# Altium footprint library Mirror_Footprints.PcbLib: 29 footprints (part 2 of 3)
Each footprint in its own frame and in the unit in brackets; x right, y up, seen from the top. Pads: shape width x height; smd on the part's side, far side on the other; paste and mask are expansions set on the pad; w line width, h text height; cw(c..) or ccw(c..) is an arc to the next point about the centre after c.
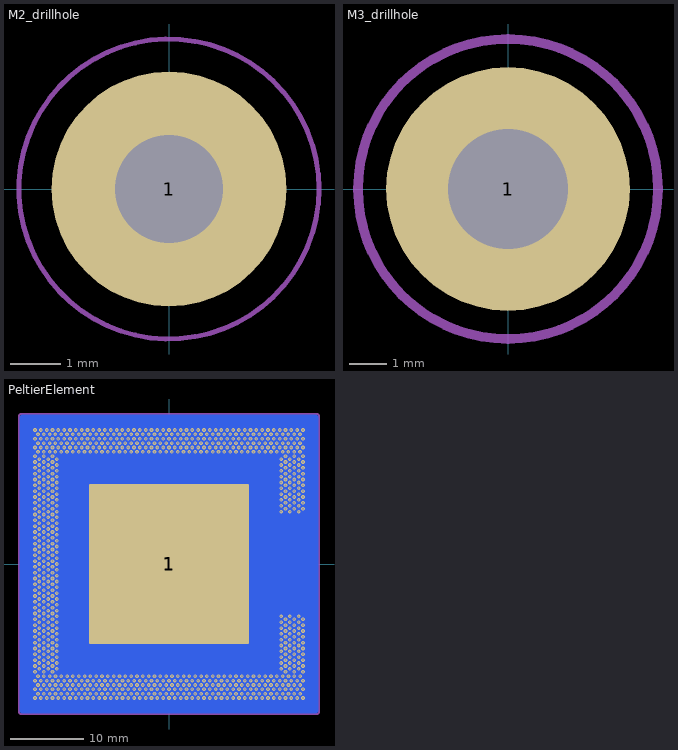
[diagram p1: the footprints below, top view; thin cyan lines are the x and y axes]

## M2_drillhole [mm]
pads (1):
  round 4.7 hole 2.15: 1(0,0)
Top Courtyard:
  circle w0.1: c0,0 r3
Bottom Courtyard:
  circle w0.1: c0,0 r3

## M3_drillhole [mm]
pads (1):
  round 6.5 hole 3.2: 1(0,0)
Top Courtyard:
  circle w0.254: c0,0 r4.001
Bottom Courtyard:
  circle w0.254: c0,0 r4.001

## PeltierElement [mm]
pads (2):
  rrect2% 22x22 smd paste-2539.97: 1(0,0)
  rrect2% 41x41 smd far side paste-2539.97: 1(0,0)
via -18.4,18.4 diameter 0.5 hole 0.3
via -17.6,18.4 diameter 0.5 hole 0.3
via -18,17.8 diameter 0.5 hole 0.3
via -16.8,18.4 diameter 0.5 hole 0.3
via -17.2,17.8 diameter 0.5 hole 0.3
via -16.4,17.8 diameter 0.5 hole 0.3
via -16,18.4 diameter 0.5 hole 0.3
via -15.2,18.4 diameter 0.5 hole 0.3
via -15.6,17.8 diameter 0.5 hole 0.3
via -14.4,18.4 diameter 0.5 hole 0.3
via -14.8,17.8 diameter 0.5 hole 0.3
via -14,17.8 diameter 0.5 hole 0.3
via -13.6,18.4 diameter 0.5 hole 0.3
via -12.8,18.4 diameter 0.5 hole 0.3
via -13.2,17.8 diameter 0.5 hole 0.3
via -12,18.4 diameter 0.5 hole 0.3
via -12.4,17.8 diameter 0.5 hole 0.3
via -11.6,17.8 diameter 0.5 hole 0.3
via -11.2,18.4 diameter 0.5 hole 0.3
via -10.4,18.4 diameter 0.5 hole 0.3
via -10.8,17.8 diameter 0.5 hole 0.3
via -9.6,18.4 diameter 0.5 hole 0.3
via -10,17.8 diameter 0.5 hole 0.3
via -9.2,17.8 diameter 0.5 hole 0.3
via -8.8,18.4 diameter 0.5 hole 0.3
via -8,18.4 diameter 0.5 hole 0.3
via -8.4,17.8 diameter 0.5 hole 0.3
via -7.2,18.4 diameter 0.5 hole 0.3
via -7.6,17.8 diameter 0.5 hole 0.3
via -6.8,17.8 diameter 0.5 hole 0.3
via -6.4,18.4 diameter 0.5 hole 0.3
via -5.6,18.4 diameter 0.5 hole 0.3
via -6,17.8 diameter 0.5 hole 0.3
via -4.8,18.4 diameter 0.5 hole 0.3
via -5.2,17.8 diameter 0.5 hole 0.3
via -4.4,17.8 diameter 0.5 hole 0.3
via -4,18.4 diameter 0.5 hole 0.3
via -3.2,18.4 diameter 0.5 hole 0.3
via -3.6,17.8 diameter 0.5 hole 0.3
via -2.4,18.4 diameter 0.5 hole 0.3
via -2.8,17.8 diameter 0.5 hole 0.3
via -2,17.8 diameter 0.5 hole 0.3
via -1.6,18.4 diameter 0.5 hole 0.3
via -0.8,18.4 diameter 0.5 hole 0.3
via -1.2,17.8 diameter 0.5 hole 0.3
via 0,18.4 diameter 0.5 hole 0.3
via -0.4,17.8 diameter 0.5 hole 0.3
via 0.4,17.8 diameter 0.5 hole 0.3
via 0.8,18.4 diameter 0.5 hole 0.3
via 1.6,18.4 diameter 0.5 hole 0.3
via 1.2,17.8 diameter 0.5 hole 0.3
via 2.4,18.4 diameter 0.5 hole 0.3
via 2,17.8 diameter 0.5 hole 0.3
via 2.8,17.8 diameter 0.5 hole 0.3
via 3.2,18.4 diameter 0.5 hole 0.3
via 4,18.4 diameter 0.5 hole 0.3
via 3.6,17.8 diameter 0.5 hole 0.3
via 4.8,18.4 diameter 0.5 hole 0.3
via 4.4,17.8 diameter 0.5 hole 0.3
via 5.2,17.8 diameter 0.5 hole 0.3
via 5.6,18.4 diameter 0.5 hole 0.3
via 6.4,18.4 diameter 0.5 hole 0.3
via 6,17.8 diameter 0.5 hole 0.3
via 7.2,18.4 diameter 0.5 hole 0.3
via 6.8,17.8 diameter 0.5 hole 0.3
via 7.6,17.8 diameter 0.5 hole 0.3
via 8,18.4 diameter 0.5 hole 0.3
via 8.8,18.4 diameter 0.5 hole 0.3
via 8.4,17.8 diameter 0.5 hole 0.3
via 9.6,18.4 diameter 0.5 hole 0.3
via 9.2,17.8 diameter 0.5 hole 0.3
via 10,17.8 diameter 0.5 hole 0.3
via 10.4,18.4 diameter 0.5 hole 0.3
via 11.2,18.4 diameter 0.5 hole 0.3
via 10.8,17.8 diameter 0.5 hole 0.3
via 12,18.4 diameter 0.5 hole 0.3
via 11.6,17.8 diameter 0.5 hole 0.3
via 12.4,17.8 diameter 0.5 hole 0.3
via 12.8,18.4 diameter 0.5 hole 0.3
via 13.6,18.4 diameter 0.5 hole 0.3
via 13.2,17.8 diameter 0.5 hole 0.3
via 14.4,18.4 diameter 0.5 hole 0.3
via 14,17.8 diameter 0.5 hole 0.3
via 14.8,17.8 diameter 0.5 hole 0.3
via 15.2,18.4 diameter 0.5 hole 0.3
via 16,18.4 diameter 0.5 hole 0.3
via 15.6,17.8 diameter 0.5 hole 0.3
via 16.8,18.4 diameter 0.5 hole 0.3
via 16.4,17.8 diameter 0.5 hole 0.3
via 17.2,17.8 diameter 0.5 hole 0.3
via 17.6,18.4 diameter 0.5 hole 0.3
via 18.4,18.4 diameter 0.5 hole 0.3
via 18,17.8 diameter 0.5 hole 0.3
via -18.4,17.2 diameter 0.5 hole 0.3
via -17.6,17.2 diameter 0.5 hole 0.3
via -18,16.6 diameter 0.5 hole 0.3
via -16.8,17.2 diameter 0.5 hole 0.3
via -17.2,16.6 diameter 0.5 hole 0.3
via -16.4,16.6 diameter 0.5 hole 0.3
via -16,17.2 diameter 0.5 hole 0.3
via -15.2,17.2 diameter 0.5 hole 0.3
via -15.6,16.6 diameter 0.5 hole 0.3
via -14.4,17.2 diameter 0.5 hole 0.3
via -14.8,16.6 diameter 0.5 hole 0.3
via -14,16.6 diameter 0.5 hole 0.3
via -13.6,17.2 diameter 0.5 hole 0.3
via -12.8,17.2 diameter 0.5 hole 0.3
via -13.2,16.6 diameter 0.5 hole 0.3
via -12,17.2 diameter 0.5 hole 0.3
via -12.4,16.6 diameter 0.5 hole 0.3
via -11.6,16.6 diameter 0.5 hole 0.3
via -11.2,17.2 diameter 0.5 hole 0.3
via -10.4,17.2 diameter 0.5 hole 0.3
via -10.8,16.6 diameter 0.5 hole 0.3
via -9.6,17.2 diameter 0.5 hole 0.3
via -10,16.6 diameter 0.5 hole 0.3
via -9.2,16.6 diameter 0.5 hole 0.3
via -8.8,17.2 diameter 0.5 hole 0.3
via -8,17.2 diameter 0.5 hole 0.3
via -8.4,16.6 diameter 0.5 hole 0.3
via -7.2,17.2 diameter 0.5 hole 0.3
via -7.6,16.6 diameter 0.5 hole 0.3
via -6.8,16.6 diameter 0.5 hole 0.3
via -6.4,17.2 diameter 0.5 hole 0.3
via -5.6,17.2 diameter 0.5 hole 0.3
via -6,16.6 diameter 0.5 hole 0.3
via -4.8,17.2 diameter 0.5 hole 0.3
via -5.2,16.6 diameter 0.5 hole 0.3
via -4.4,16.6 diameter 0.5 hole 0.3
via -4,17.2 diameter 0.5 hole 0.3
via -3.2,17.2 diameter 0.5 hole 0.3
via -3.6,16.6 diameter 0.5 hole 0.3
via -2.4,17.2 diameter 0.5 hole 0.3
via -2.8,16.6 diameter 0.5 hole 0.3
via -2,16.6 diameter 0.5 hole 0.3
via -1.6,17.2 diameter 0.5 hole 0.3
via -0.8,17.2 diameter 0.5 hole 0.3
via -1.2,16.6 diameter 0.5 hole 0.3
via 0,17.2 diameter 0.5 hole 0.3
via -0.4,16.6 diameter 0.5 hole 0.3
via 0.4,16.6 diameter 0.5 hole 0.3
via 0.8,17.2 diameter 0.5 hole 0.3
via 1.6,17.2 diameter 0.5 hole 0.3
via 1.2,16.6 diameter 0.5 hole 0.3
via 2.4,17.2 diameter 0.5 hole 0.3
via 2,16.6 diameter 0.5 hole 0.3
via 2.8,16.6 diameter 0.5 hole 0.3
via 3.2,17.2 diameter 0.5 hole 0.3
via 4,17.2 diameter 0.5 hole 0.3
via 3.6,16.6 diameter 0.5 hole 0.3
via 4.8,17.2 diameter 0.5 hole 0.3
via 4.4,16.6 diameter 0.5 hole 0.3
via 5.2,16.6 diameter 0.5 hole 0.3
via 5.6,17.2 diameter 0.5 hole 0.3
via 6.4,17.2 diameter 0.5 hole 0.3
via 6,16.6 diameter 0.5 hole 0.3
via 7.2,17.2 diameter 0.5 hole 0.3
via 6.8,16.6 diameter 0.5 hole 0.3
via 7.6,16.6 diameter 0.5 hole 0.3
via 8,17.2 diameter 0.5 hole 0.3
via 8.8,17.2 diameter 0.5 hole 0.3
via 8.4,16.6 diameter 0.5 hole 0.3
via 9.6,17.2 diameter 0.5 hole 0.3
via 9.2,16.6 diameter 0.5 hole 0.3
via 10,16.6 diameter 0.5 hole 0.3
via 10.4,17.2 diameter 0.5 hole 0.3
via 11.2,17.2 diameter 0.5 hole 0.3
via 10.8,16.6 diameter 0.5 hole 0.3
via 12,17.2 diameter 0.5 hole 0.3
via 11.6,16.6 diameter 0.5 hole 0.3
via 12.4,16.6 diameter 0.5 hole 0.3
via 12.8,17.2 diameter 0.5 hole 0.3
via 13.6,17.2 diameter 0.5 hole 0.3
via 13.2,16.6 diameter 0.5 hole 0.3
via 14.4,17.2 diameter 0.5 hole 0.3
via 14,16.6 diameter 0.5 hole 0.3
via 14.8,16.6 diameter 0.5 hole 0.3
via 15.2,17.2 diameter 0.5 hole 0.3
via 16,17.2 diameter 0.5 hole 0.3
via 15.6,16.6 diameter 0.5 hole 0.3
via 16.8,17.2 diameter 0.5 hole 0.3
via 16.4,16.6 diameter 0.5 hole 0.3
via 17.2,16.6 diameter 0.5 hole 0.3
via 17.6,17.2 diameter 0.5 hole 0.3
via 18.4,17.2 diameter 0.5 hole 0.3
via 18,16.6 diameter 0.5 hole 0.3
via -18.4,16 diameter 0.5 hole 0.3
via -17.6,16 diameter 0.5 hole 0.3
via -18,15.4 diameter 0.5 hole 0.3
via -16.8,16 diameter 0.5 hole 0.3
via -17.2,15.4 diameter 0.5 hole 0.3
via -16.4,15.4 diameter 0.5 hole 0.3
via -16,16 diameter 0.5 hole 0.3
via -15.2,16 diameter 0.5 hole 0.3
via -15.6,15.4 diameter 0.5 hole 0.3
via -14.4,16 diameter 0.5 hole 0.3
via -14.8,15.4 diameter 0.5 hole 0.3
via -14,15.4 diameter 0.5 hole 0.3
via -13.6,16 diameter 0.5 hole 0.3
via -12.8,16 diameter 0.5 hole 0.3
via -13.2,15.4 diameter 0.5 hole 0.3
via -12,16 diameter 0.5 hole 0.3
via -12.4,15.4 diameter 0.5 hole 0.3
via -11.6,15.4 diameter 0.5 hole 0.3
via -11.2,16 diameter 0.5 hole 0.3
via -10.4,16 diameter 0.5 hole 0.3
via -10.8,15.4 diameter 0.5 hole 0.3
via -9.6,16 diameter 0.5 hole 0.3
via -10,15.4 diameter 0.5 hole 0.3
via -9.2,15.4 diameter 0.5 hole 0.3
via -8.8,16 diameter 0.5 hole 0.3
via -8,16 diameter 0.5 hole 0.3
via -8.4,15.4 diameter 0.5 hole 0.3
via -7.2,16 diameter 0.5 hole 0.3
via -7.6,15.4 diameter 0.5 hole 0.3
via -6.8,15.4 diameter 0.5 hole 0.3
via -6.4,16 diameter 0.5 hole 0.3
via -5.6,16 diameter 0.5 hole 0.3
via -6,15.4 diameter 0.5 hole 0.3
via -4.8,16 diameter 0.5 hole 0.3
via -5.2,15.4 diameter 0.5 hole 0.3
via -4.4,15.4 diameter 0.5 hole 0.3
via -4,16 diameter 0.5 hole 0.3
via -3.2,16 diameter 0.5 hole 0.3
via -3.6,15.4 diameter 0.5 hole 0.3
via -2.4,16 diameter 0.5 hole 0.3
via -2.8,15.4 diameter 0.5 hole 0.3
via -2,15.4 diameter 0.5 hole 0.3
via -1.6,16 diameter 0.5 hole 0.3
via -0.8,16 diameter 0.5 hole 0.3
via -1.2,15.4 diameter 0.5 hole 0.3
via 0,16 diameter 0.5 hole 0.3
via -0.4,15.4 diameter 0.5 hole 0.3
via 0.4,15.4 diameter 0.5 hole 0.3
via 0.8,16 diameter 0.5 hole 0.3
via 1.6,16 diameter 0.5 hole 0.3
via 1.2,15.4 diameter 0.5 hole 0.3
via 2.4,16 diameter 0.5 hole 0.3
via 2,15.4 diameter 0.5 hole 0.3
via 2.8,15.4 diameter 0.5 hole 0.3
via 3.2,16 diameter 0.5 hole 0.3
via 4,16 diameter 0.5 hole 0.3
via 3.6,15.4 diameter 0.5 hole 0.3
via 4.8,16 diameter 0.5 hole 0.3
via 4.4,15.4 diameter 0.5 hole 0.3
via 5.2,15.4 diameter 0.5 hole 0.3
via 5.6,16 diameter 0.5 hole 0.3
via 6.4,16 diameter 0.5 hole 0.3
via 6,15.4 diameter 0.5 hole 0.3
via 7.2,16 diameter 0.5 hole 0.3
via 6.8,15.4 diameter 0.5 hole 0.3
via 7.6,15.4 diameter 0.5 hole 0.3
via 8,16 diameter 0.5 hole 0.3
via 8.8,16 diameter 0.5 hole 0.3
via 8.4,15.4 diameter 0.5 hole 0.3
via 9.6,16 diameter 0.5 hole 0.3
via 9.2,15.4 diameter 0.5 hole 0.3
via 10,15.4 diameter 0.5 hole 0.3
via 10.4,16 diameter 0.5 hole 0.3
via 11.2,16 diameter 0.5 hole 0.3
via 10.8,15.4 diameter 0.5 hole 0.3
via 12,16 diameter 0.5 hole 0.3
via 11.6,15.4 diameter 0.5 hole 0.3
via 12.4,15.4 diameter 0.5 hole 0.3
via 12.8,16 diameter 0.5 hole 0.3
via 13.6,16 diameter 0.5 hole 0.3
via 13.2,15.4 diameter 0.5 hole 0.3
via 14.4,16 diameter 0.5 hole 0.3
via 14,15.4 diameter 0.5 hole 0.3
via 14.8,15.4 diameter 0.5 hole 0.3
via 15.2,16 diameter 0.5 hole 0.3
via 16,16 diameter 0.5 hole 0.3
via 15.6,15.4 diameter 0.5 hole 0.3
via 16.8,16 diameter 0.5 hole 0.3
via 16.4,15.4 diameter 0.5 hole 0.3
via 17.2,15.4 diameter 0.5 hole 0.3
via 17.6,16 diameter 0.5 hole 0.3
via 18.4,16 diameter 0.5 hole 0.3
via 18,15.4 diameter 0.5 hole 0.3
via 18.406,-18.412 diameter 0.5 hole 0.3
via 17.606,-18.412 diameter 0.5 hole 0.3
via 18.006,-17.812 diameter 0.5 hole 0.3
via 16.806,-18.412 diameter 0.5 hole 0.3
via 17.206,-17.812 diameter 0.5 hole 0.3
via 16.406,-17.812 diameter 0.5 hole 0.3
via 16.006,-18.412 diameter 0.5 hole 0.3
via 15.206,-18.412 diameter 0.5 hole 0.3
via 15.606,-17.812 diameter 0.5 hole 0.3
via 14.406,-18.412 diameter 0.5 hole 0.3
via 14.806,-17.812 diameter 0.5 hole 0.3
via 14.006,-17.812 diameter 0.5 hole 0.3
via 13.606,-18.412 diameter 0.5 hole 0.3
via 12.806,-18.412 diameter 0.5 hole 0.3
via 13.206,-17.812 diameter 0.5 hole 0.3
via 12.006,-18.412 diameter 0.5 hole 0.3
via 12.406,-17.812 diameter 0.5 hole 0.3
via 11.606,-17.812 diameter 0.5 hole 0.3
via 11.206,-18.412 diameter 0.5 hole 0.3
via 10.406,-18.412 diameter 0.5 hole 0.3
via 10.806,-17.812 diameter 0.5 hole 0.3
via 9.606,-18.412 diameter 0.5 hole 0.3
via 10.006,-17.812 diameter 0.5 hole 0.3
via 9.206,-17.812 diameter 0.5 hole 0.3
via 8.806,-18.412 diameter 0.5 hole 0.3
via 8.006,-18.412 diameter 0.5 hole 0.3
via 8.406,-17.812 diameter 0.5 hole 0.3
via 7.206,-18.412 diameter 0.5 hole 0.3
via 7.606,-17.812 diameter 0.5 hole 0.3
via 6.806,-17.812 diameter 0.5 hole 0.3
via 6.406,-18.412 diameter 0.5 hole 0.3
via 5.606,-18.412 diameter 0.5 hole 0.3
via 6.006,-17.812 diameter 0.5 hole 0.3
via 4.806,-18.412 diameter 0.5 hole 0.3
via 5.206,-17.812 diameter 0.5 hole 0.3
via 4.406,-17.812 diameter 0.5 hole 0.3
via 4.006,-18.412 diameter 0.5 hole 0.3
via 3.206,-18.412 diameter 0.5 hole 0.3
via 3.606,-17.812 diameter 0.5 hole 0.3
via 2.406,-18.412 diameter 0.5 hole 0.3
via 2.806,-17.812 diameter 0.5 hole 0.3
via 2.006,-17.812 diameter 0.5 hole 0.3
via 1.606,-18.412 diameter 0.5 hole 0.3
via 0.806,-18.412 diameter 0.5 hole 0.3
via 1.206,-17.812 diameter 0.5 hole 0.3
via 0.006,-18.412 diameter 0.5 hole 0.3
via 0.406,-17.812 diameter 0.5 hole 0.3
via -0.394,-17.812 diameter 0.5 hole 0.3
via -0.794,-18.412 diameter 0.5 hole 0.3
via -1.594,-18.412 diameter 0.5 hole 0.3
via -1.194,-17.812 diameter 0.5 hole 0.3
via -2.394,-18.412 diameter 0.5 hole 0.3
via -1.994,-17.812 diameter 0.5 hole 0.3
via -2.794,-17.812 diameter 0.5 hole 0.3
via -3.194,-18.412 diameter 0.5 hole 0.3
via -3.994,-18.412 diameter 0.5 hole 0.3
via -3.594,-17.812 diameter 0.5 hole 0.3
via -4.794,-18.412 diameter 0.5 hole 0.3
via -4.394,-17.812 diameter 0.5 hole 0.3
via -5.194,-17.812 diameter 0.5 hole 0.3
via -5.594,-18.412 diameter 0.5 hole 0.3
via -6.394,-18.412 diameter 0.5 hole 0.3
via -5.994,-17.812 diameter 0.5 hole 0.3
via -7.194,-18.412 diameter 0.5 hole 0.3
via -6.794,-17.812 diameter 0.5 hole 0.3
via -7.594,-17.812 diameter 0.5 hole 0.3
via -7.994,-18.412 diameter 0.5 hole 0.3
via -8.794,-18.412 diameter 0.5 hole 0.3
via -8.394,-17.812 diameter 0.5 hole 0.3
via -9.594,-18.412 diameter 0.5 hole 0.3
via -9.194,-17.812 diameter 0.5 hole 0.3
via -9.994,-17.812 diameter 0.5 hole 0.3
via -10.394,-18.412 diameter 0.5 hole 0.3
via -11.194,-18.412 diameter 0.5 hole 0.3
via -10.794,-17.812 diameter 0.5 hole 0.3
via -11.994,-18.412 diameter 0.5 hole 0.3
via -11.594,-17.812 diameter 0.5 hole 0.3
via -12.394,-17.812 diameter 0.5 hole 0.3
via -12.794,-18.412 diameter 0.5 hole 0.3
via -13.594,-18.412 diameter 0.5 hole 0.3
via -13.194,-17.812 diameter 0.5 hole 0.3
via -14.394,-18.412 diameter 0.5 hole 0.3
via -13.994,-17.812 diameter 0.5 hole 0.3
via -14.794,-17.812 diameter 0.5 hole 0.3
via -15.194,-18.412 diameter 0.5 hole 0.3
via -15.994,-18.412 diameter 0.5 hole 0.3
via -15.594,-17.812 diameter 0.5 hole 0.3
via -16.794,-18.412 diameter 0.5 hole 0.3
via -16.394,-17.812 diameter 0.5 hole 0.3
via -17.194,-17.812 diameter 0.5 hole 0.3
via -17.594,-18.412 diameter 0.5 hole 0.3
via -18.394,-18.412 diameter 0.5 hole 0.3
via -17.994,-17.812 diameter 0.5 hole 0.3
via 18.406,-17.212 diameter 0.5 hole 0.3
via 17.606,-17.212 diameter 0.5 hole 0.3
via 18.006,-16.612 diameter 0.5 hole 0.3
via 16.806,-17.212 diameter 0.5 hole 0.3
via 17.206,-16.612 diameter 0.5 hole 0.3
via 16.406,-16.612 diameter 0.5 hole 0.3
via 16.006,-17.212 diameter 0.5 hole 0.3
via 15.206,-17.212 diameter 0.5 hole 0.3
via 15.606,-16.612 diameter 0.5 hole 0.3
via 14.406,-17.212 diameter 0.5 hole 0.3
via 14.806,-16.612 diameter 0.5 hole 0.3
via 14.006,-16.612 diameter 0.5 hole 0.3
via 13.606,-17.212 diameter 0.5 hole 0.3
via 12.806,-17.212 diameter 0.5 hole 0.3
via 13.206,-16.612 diameter 0.5 hole 0.3
via 12.006,-17.212 diameter 0.5 hole 0.3
via 12.406,-16.612 diameter 0.5 hole 0.3
via 11.606,-16.612 diameter 0.5 hole 0.3
via 11.206,-17.212 diameter 0.5 hole 0.3
via 10.406,-17.212 diameter 0.5 hole 0.3
via 10.806,-16.612 diameter 0.5 hole 0.3
via 9.606,-17.212 diameter 0.5 hole 0.3
via 10.006,-16.612 diameter 0.5 hole 0.3
via 9.206,-16.612 diameter 0.5 hole 0.3
via 8.806,-17.212 diameter 0.5 hole 0.3
via 8.006,-17.212 diameter 0.5 hole 0.3
via 8.406,-16.612 diameter 0.5 hole 0.3
via 7.206,-17.212 diameter 0.5 hole 0.3
via 7.606,-16.612 diameter 0.5 hole 0.3
via 6.806,-16.612 diameter 0.5 hole 0.3
via 6.406,-17.212 diameter 0.5 hole 0.3
via 5.606,-17.212 diameter 0.5 hole 0.3
via 6.006,-16.612 diameter 0.5 hole 0.3
via 4.806,-17.212 diameter 0.5 hole 0.3
via 5.206,-16.612 diameter 0.5 hole 0.3
via 4.406,-16.612 diameter 0.5 hole 0.3
via 4.006,-17.212 diameter 0.5 hole 0.3
via 3.206,-17.212 diameter 0.5 hole 0.3
via 3.606,-16.612 diameter 0.5 hole 0.3
via 2.406,-17.212 diameter 0.5 hole 0.3
via 2.806,-16.612 diameter 0.5 hole 0.3
via 2.006,-16.612 diameter 0.5 hole 0.3
via 1.606,-17.212 diameter 0.5 hole 0.3
via 0.806,-17.212 diameter 0.5 hole 0.3
via 1.206,-16.612 diameter 0.5 hole 0.3
via 0.006,-17.212 diameter 0.5 hole 0.3
via 0.406,-16.612 diameter 0.5 hole 0.3
via -0.394,-16.612 diameter 0.5 hole 0.3
via -0.794,-17.212 diameter 0.5 hole 0.3
via -1.594,-17.212 diameter 0.5 hole 0.3
via -1.194,-16.612 diameter 0.5 hole 0.3
via -2.394,-17.212 diameter 0.5 hole 0.3
via -1.994,-16.612 diameter 0.5 hole 0.3
via -2.794,-16.612 diameter 0.5 hole 0.3
via -3.194,-17.212 diameter 0.5 hole 0.3
via -3.994,-17.212 diameter 0.5 hole 0.3
via -3.594,-16.612 diameter 0.5 hole 0.3
via -4.794,-17.212 diameter 0.5 hole 0.3
via -4.394,-16.612 diameter 0.5 hole 0.3
via -5.194,-16.612 diameter 0.5 hole 0.3
via -5.594,-17.212 diameter 0.5 hole 0.3
via -6.394,-17.212 diameter 0.5 hole 0.3
via -5.994,-16.612 diameter 0.5 hole 0.3
via -7.194,-17.212 diameter 0.5 hole 0.3
via -6.794,-16.612 diameter 0.5 hole 0.3
via -7.594,-16.612 diameter 0.5 hole 0.3
via -7.994,-17.212 diameter 0.5 hole 0.3
via -8.794,-17.212 diameter 0.5 hole 0.3
via -8.394,-16.612 diameter 0.5 hole 0.3
via -9.594,-17.212 diameter 0.5 hole 0.3
via -9.194,-16.612 diameter 0.5 hole 0.3
via -9.994,-16.612 diameter 0.5 hole 0.3
via -10.394,-17.212 diameter 0.5 hole 0.3
via -11.194,-17.212 diameter 0.5 hole 0.3
via -10.794,-16.612 diameter 0.5 hole 0.3
via -11.994,-17.212 diameter 0.5 hole 0.3
via -11.594,-16.612 diameter 0.5 hole 0.3
via -12.394,-16.612 diameter 0.5 hole 0.3
via -12.794,-17.212 diameter 0.5 hole 0.3
via -13.594,-17.212 diameter 0.5 hole 0.3
via -13.194,-16.612 diameter 0.5 hole 0.3
via -14.394,-17.212 diameter 0.5 hole 0.3
via -13.994,-16.612 diameter 0.5 hole 0.3
via -14.794,-16.612 diameter 0.5 hole 0.3
via -15.194,-17.212 diameter 0.5 hole 0.3
via -15.994,-17.212 diameter 0.5 hole 0.3
via -15.594,-16.612 diameter 0.5 hole 0.3
via -16.794,-17.212 diameter 0.5 hole 0.3
via -16.394,-16.612 diameter 0.5 hole 0.3
via -17.194,-16.612 diameter 0.5 hole 0.3
via -17.594,-17.212 diameter 0.5 hole 0.3
via -18.394,-17.212 diameter 0.5 hole 0.3
via -17.994,-16.612 diameter 0.5 hole 0.3
via 18.406,-16.012 diameter 0.5 hole 0.3
via 17.606,-16.012 diameter 0.5 hole 0.3
via 18.006,-15.412 diameter 0.5 hole 0.3
via 16.806,-16.012 diameter 0.5 hole 0.3
via 17.206,-15.412 diameter 0.5 hole 0.3
via 16.406,-15.412 diameter 0.5 hole 0.3
via 16.006,-16.012 diameter 0.5 hole 0.3
via 15.206,-16.012 diameter 0.5 hole 0.3
via 15.606,-15.412 diameter 0.5 hole 0.3
via 14.406,-16.012 diameter 0.5 hole 0.3
via 14.806,-15.412 diameter 0.5 hole 0.3
via 14.006,-15.412 diameter 0.5 hole 0.3
via 13.606,-16.012 diameter 0.5 hole 0.3
via 12.806,-16.012 diameter 0.5 hole 0.3
via 13.206,-15.412 diameter 0.5 hole 0.3
via 12.006,-16.012 diameter 0.5 hole 0.3
via 12.406,-15.412 diameter 0.5 hole 0.3
via 11.606,-15.412 diameter 0.5 hole 0.3
via 11.206,-16.012 diameter 0.5 hole 0.3
via 10.406,-16.012 diameter 0.5 hole 0.3
via 10.806,-15.412 diameter 0.5 hole 0.3
via 9.606,-16.012 diameter 0.5 hole 0.3
via 10.006,-15.412 diameter 0.5 hole 0.3
via 9.206,-15.412 diameter 0.5 hole 0.3
via 8.806,-16.012 diameter 0.5 hole 0.3
via 8.006,-16.012 diameter 0.5 hole 0.3
via 8.406,-15.412 diameter 0.5 hole 0.3
via 7.206,-16.012 diameter 0.5 hole 0.3
via 7.606,-15.412 diameter 0.5 hole 0.3
via 6.806,-15.412 diameter 0.5 hole 0.3
via 6.406,-16.012 diameter 0.5 hole 0.3
via 5.606,-16.012 diameter 0.5 hole 0.3
via 6.006,-15.412 diameter 0.5 hole 0.3
via 4.806,-16.012 diameter 0.5 hole 0.3
via 5.206,-15.412 diameter 0.5 hole 0.3
via 4.406,-15.412 diameter 0.5 hole 0.3
via 4.006,-16.012 diameter 0.5 hole 0.3
via 3.206,-16.012 diameter 0.5 hole 0.3
via 3.606,-15.412 diameter 0.5 hole 0.3
via 2.406,-16.012 diameter 0.5 hole 0.3
via 2.806,-15.412 diameter 0.5 hole 0.3
via 2.006,-15.412 diameter 0.5 hole 0.3
via 1.606,-16.012 diameter 0.5 hole 0.3
via 0.806,-16.012 diameter 0.5 hole 0.3
via 1.206,-15.412 diameter 0.5 hole 0.3
via 0.006,-16.012 diameter 0.5 hole 0.3
via 0.406,-15.412 diameter 0.5 hole 0.3
via -0.394,-15.412 diameter 0.5 hole 0.3
via -0.794,-16.012 diameter 0.5 hole 0.3
via -1.594,-16.012 diameter 0.5 hole 0.3
via -1.194,-15.412 diameter 0.5 hole 0.3
via -2.394,-16.012 diameter 0.5 hole 0.3
via -1.994,-15.412 diameter 0.5 hole 0.3
via -2.794,-15.412 diameter 0.5 hole 0.3
via -3.194,-16.012 diameter 0.5 hole 0.3
via -3.994,-16.012 diameter 0.5 hole 0.3
via -3.594,-15.412 diameter 0.5 hole 0.3
via -4.794,-16.012 diameter 0.5 hole 0.3
via -4.394,-15.412 diameter 0.5 hole 0.3
via -5.194,-15.412 diameter 0.5 hole 0.3
via -5.594,-16.012 diameter 0.5 hole 0.3
via -6.394,-16.012 diameter 0.5 hole 0.3
via -5.994,-15.412 diameter 0.5 hole 0.3
via -7.194,-16.012 diameter 0.5 hole 0.3
via -6.794,-15.412 diameter 0.5 hole 0.3
via -7.594,-15.412 diameter 0.5 hole 0.3
via -7.994,-16.012 diameter 0.5 hole 0.3
via -8.794,-16.012 diameter 0.5 hole 0.3
via -8.394,-15.412 diameter 0.5 hole 0.3
via -9.594,-16.012 diameter 0.5 hole 0.3
via -9.194,-15.412 diameter 0.5 hole 0.3
via -9.994,-15.412 diameter 0.5 hole 0.3
via -10.394,-16.012 diameter 0.5 hole 0.3
via -11.194,-16.012 diameter 0.5 hole 0.3
via -10.794,-15.412 diameter 0.5 hole 0.3
via -11.994,-16.012 diameter 0.5 hole 0.3
via -11.594,-15.412 diameter 0.5 hole 0.3
via -12.394,-15.412 diameter 0.5 hole 0.3
via -12.794,-16.012 diameter 0.5 hole 0.3
via -13.594,-16.012 diameter 0.5 hole 0.3
via -13.194,-15.412 diameter 0.5 hole 0.3
via -14.394,-16.012 diameter 0.5 hole 0.3
via -13.994,-15.412 diameter 0.5 hole 0.3
via -14.794,-15.412 diameter 0.5 hole 0.3
via -15.194,-16.012 diameter 0.5 hole 0.3
via -15.994,-16.012 diameter 0.5 hole 0.3
via -15.594,-15.412 diameter 0.5 hole 0.3
via -16.794,-16.012 diameter 0.5 hole 0.3
via -16.394,-15.412 diameter 0.5 hole 0.3
via -17.194,-15.412 diameter 0.5 hole 0.3
via -17.594,-16.012 diameter 0.5 hole 0.3
via -18.394,-16.012 diameter 0.5 hole 0.3
via -17.994,-15.412 diameter 0.5 hole 0.3
via -15.4,14.4 diameter 0.5 hole 0.3
via -16,14.8 diameter 0.5 hole 0.3
via -16,14 diameter 0.5 hole 0.3
via -15.4,13.6 diameter 0.5 hole 0.3
via -15.4,12.8 diameter 0.5 hole 0.3
via -16,13.2 diameter 0.5 hole 0.3
via -15.4,12 diameter 0.5 hole 0.3
via -16,12.4 diameter 0.5 hole 0.3
via -16,11.6 diameter 0.5 hole 0.3
via -15.4,11.2 diameter 0.5 hole 0.3
via -15.4,10.4 diameter 0.5 hole 0.3
via -16,10.8 diameter 0.5 hole 0.3
via -15.4,9.6 diameter 0.5 hole 0.3
via -16,10 diameter 0.5 hole 0.3
via -16,9.2 diameter 0.5 hole 0.3
via -15.4,8.8 diameter 0.5 hole 0.3
via -15.4,8 diameter 0.5 hole 0.3
via -16,8.4 diameter 0.5 hole 0.3
via -15.4,7.2 diameter 0.5 hole 0.3
via -16,7.6 diameter 0.5 hole 0.3
via -16,6.8 diameter 0.5 hole 0.3
via -15.4,6.4 diameter 0.5 hole 0.3
via -15.4,5.6 diameter 0.5 hole 0.3
via -16,6 diameter 0.5 hole 0.3
via -15.4,4.8 diameter 0.5 hole 0.3
via -16,5.2 diameter 0.5 hole 0.3
via -16,4.4 diameter 0.5 hole 0.3
via -15.4,4 diameter 0.5 hole 0.3
via -15.4,3.2 diameter 0.5 hole 0.3
via -16,3.6 diameter 0.5 hole 0.3
via -15.4,2.4 diameter 0.5 hole 0.3
via -16,2.8 diameter 0.5 hole 0.3
via -16,2 diameter 0.5 hole 0.3
via -15.4,1.6 diameter 0.5 hole 0.3
via -15.4,0.8 diameter 0.5 hole 0.3
via -16,1.2 diameter 0.5 hole 0.3
via -15.4,0 diameter 0.5 hole 0.3
via -16,0.4 diameter 0.5 hole 0.3
via -16,-0.4 diameter 0.5 hole 0.3
via -15.4,-0.8 diameter 0.5 hole 0.3
via -15.4,-1.6 diameter 0.5 hole 0.3
via -16,-1.2 diameter 0.5 hole 0.3
via -15.4,-2.4 diameter 0.5 hole 0.3
via -16,-2 diameter 0.5 hole 0.3
via -16,-2.8 diameter 0.5 hole 0.3
via -15.4,-3.2 diameter 0.5 hole 0.3
via -15.4,-4 diameter 0.5 hole 0.3
via -16,-3.6 diameter 0.5 hole 0.3
via -15.4,-4.8 diameter 0.5 hole 0.3
via -16,-4.4 diameter 0.5 hole 0.3
via -16,-5.2 diameter 0.5 hole 0.3
via -15.4,-5.6 diameter 0.5 hole 0.3
via -15.4,-6.4 diameter 0.5 hole 0.3
via -16,-6 diameter 0.5 hole 0.3
via -15.4,-7.2 diameter 0.5 hole 0.3
via -16,-6.8 diameter 0.5 hole 0.3
via -16,-7.6 diameter 0.5 hole 0.3
via -15.4,-8 diameter 0.5 hole 0.3
via -15.4,-8.8 diameter 0.5 hole 0.3
via -16,-8.4 diameter 0.5 hole 0.3
via -15.4,-9.6 diameter 0.5 hole 0.3
via -16,-9.2 diameter 0.5 hole 0.3
via -16,-10 diameter 0.5 hole 0.3
via -15.4,-10.4 diameter 0.5 hole 0.3
via -15.4,-11.2 diameter 0.5 hole 0.3
via -16,-10.8 diameter 0.5 hole 0.3
via -15.4,-12 diameter 0.5 hole 0.3
via -16,-11.6 diameter 0.5 hole 0.3
via -16,-12.4 diameter 0.5 hole 0.3
via -15.4,-12.8 diameter 0.5 hole 0.3
via -15.4,-13.6 diameter 0.5 hole 0.3
via -16,-13.2 diameter 0.5 hole 0.3
via -15.4,-14.4 diameter 0.5 hole 0.3
via -16,-14 diameter 0.5 hole 0.3
via -16,-14.8 diameter 0.5 hole 0.3
via -16.6,14.4 diameter 0.5 hole 0.3
via -17.2,14.8 diameter 0.5 hole 0.3
via -17.2,14 diameter 0.5 hole 0.3
via -16.6,13.6 diameter 0.5 hole 0.3
via -16.6,12.8 diameter 0.5 hole 0.3
via -17.2,13.2 diameter 0.5 hole 0.3
via -16.6,12 diameter 0.5 hole 0.3
via -17.2,12.4 diameter 0.5 hole 0.3
via -17.2,11.6 diameter 0.5 hole 0.3
via -16.6,11.2 diameter 0.5 hole 0.3
via -16.6,10.4 diameter 0.5 hole 0.3
via -17.2,10.8 diameter 0.5 hole 0.3
via -16.6,9.6 diameter 0.5 hole 0.3
via -17.2,10 diameter 0.5 hole 0.3
via -17.2,9.2 diameter 0.5 hole 0.3
via -16.6,8.8 diameter 0.5 hole 0.3
via -16.6,8 diameter 0.5 hole 0.3
via -17.2,8.4 diameter 0.5 hole 0.3
via -16.6,7.2 diameter 0.5 hole 0.3
via -17.2,7.6 diameter 0.5 hole 0.3
via -17.2,6.8 diameter 0.5 hole 0.3
via -16.6,6.4 diameter 0.5 hole 0.3
via -16.6,5.6 diameter 0.5 hole 0.3
via -17.2,6 diameter 0.5 hole 0.3
via -16.6,4.8 diameter 0.5 hole 0.3
via -17.2,5.2 diameter 0.5 hole 0.3
via -17.2,4.4 diameter 0.5 hole 0.3
via -16.6,4 diameter 0.5 hole 0.3
via -16.6,3.2 diameter 0.5 hole 0.3
via -17.2,3.6 diameter 0.5 hole 0.3
via -16.6,2.4 diameter 0.5 hole 0.3
via -17.2,2.8 diameter 0.5 hole 0.3
via -17.2,2 diameter 0.5 hole 0.3
via -16.6,1.6 diameter 0.5 hole 0.3
via -16.6,0.8 diameter 0.5 hole 0.3
via -17.2,1.2 diameter 0.5 hole 0.3
via -16.6,0 diameter 0.5 hole 0.3
via -17.2,0.4 diameter 0.5 hole 0.3
via -17.2,-0.4 diameter 0.5 hole 0.3
via -16.6,-0.8 diameter 0.5 hole 0.3
via -16.6,-1.6 diameter 0.5 hole 0.3
via -17.2,-1.2 diameter 0.5 hole 0.3
via -16.6,-2.4 diameter 0.5 hole 0.3
via -17.2,-2 diameter 0.5 hole 0.3
via -17.2,-2.8 diameter 0.5 hole 0.3
via -16.6,-3.2 diameter 0.5 hole 0.3
via -16.6,-4 diameter 0.5 hole 0.3
via -17.2,-3.6 diameter 0.5 hole 0.3
via -16.6,-4.8 diameter 0.5 hole 0.3
via -17.2,-4.4 diameter 0.5 hole 0.3
via -17.2,-5.2 diameter 0.5 hole 0.3
via -16.6,-5.6 diameter 0.5 hole 0.3
via -16.6,-6.4 diameter 0.5 hole 0.3
via -17.2,-6 diameter 0.5 hole 0.3
via -16.6,-7.2 diameter 0.5 hole 0.3
via -17.2,-6.8 diameter 0.5 hole 0.3
via -17.2,-7.6 diameter 0.5 hole 0.3
via -16.6,-8 diameter 0.5 hole 0.3
via -16.6,-8.8 diameter 0.5 hole 0.3
via -17.2,-8.4 diameter 0.5 hole 0.3
via -16.6,-9.6 diameter 0.5 hole 0.3
via -17.2,-9.2 diameter 0.5 hole 0.3
via -17.2,-10 diameter 0.5 hole 0.3
via -16.6,-10.4 diameter 0.5 hole 0.3
via -16.6,-11.2 diameter 0.5 hole 0.3
via -17.2,-10.8 diameter 0.5 hole 0.3
via -16.6,-12 diameter 0.5 hole 0.3
via -17.2,-11.6 diameter 0.5 hole 0.3
via -17.2,-12.4 diameter 0.5 hole 0.3
via -16.6,-12.8 diameter 0.5 hole 0.3
via -16.6,-13.6 diameter 0.5 hole 0.3
via -17.2,-13.2 diameter 0.5 hole 0.3
via -16.6,-14.4 diameter 0.5 hole 0.3
via -17.2,-14 diameter 0.5 hole 0.3
via -17.2,-14.8 diameter 0.5 hole 0.3
via -17.8,14.4 diameter 0.5 hole 0.3
via -18.4,14.8 diameter 0.5 hole 0.3
via -18.4,14 diameter 0.5 hole 0.3
via -17.8,13.6 diameter 0.5 hole 0.3
via -17.8,12.8 diameter 0.5 hole 0.3
via -18.4,13.2 diameter 0.5 hole 0.3
via -17.8,12 diameter 0.5 hole 0.3
via -18.4,12.4 diameter 0.5 hole 0.3
via -18.4,11.6 diameter 0.5 hole 0.3
via -17.8,11.2 diameter 0.5 hole 0.3
via -17.8,10.4 diameter 0.5 hole 0.3
via -18.4,10.8 diameter 0.5 hole 0.3
via -17.8,9.6 diameter 0.5 hole 0.3
via -18.4,10 diameter 0.5 hole 0.3
via -18.4,9.2 diameter 0.5 hole 0.3
via -17.8,8.8 diameter 0.5 hole 0.3
via -17.8,8 diameter 0.5 hole 0.3
via -18.4,8.4 diameter 0.5 hole 0.3
via -17.8,7.2 diameter 0.5 hole 0.3
via -18.4,7.6 diameter 0.5 hole 0.3
via -18.4,6.8 diameter 0.5 hole 0.3
via -17.8,6.4 diameter 0.5 hole 0.3
via -17.8,5.6 diameter 0.5 hole 0.3
via -18.4,6 diameter 0.5 hole 0.3
via -17.8,4.8 diameter 0.5 hole 0.3
via -18.4,5.2 diameter 0.5 hole 0.3
via -18.4,4.4 diameter 0.5 hole 0.3
via -17.8,4 diameter 0.5 hole 0.3
via -17.8,3.2 diameter 0.5 hole 0.3
via -18.4,3.6 diameter 0.5 hole 0.3
via -17.8,2.4 diameter 0.5 hole 0.3
via -18.4,2.8 diameter 0.5 hole 0.3
via -18.4,2 diameter 0.5 hole 0.3
via -17.8,1.6 diameter 0.5 hole 0.3
via -17.8,0.8 diameter 0.5 hole 0.3
via -18.4,1.2 diameter 0.5 hole 0.3
via -17.8,0 diameter 0.5 hole 0.3
via -18.4,0.4 diameter 0.5 hole 0.3
via -18.4,-0.4 diameter 0.5 hole 0.3
via -17.8,-0.8 diameter 0.5 hole 0.3
via -17.8,-1.6 diameter 0.5 hole 0.3
via -18.4,-1.2 diameter 0.5 hole 0.3
via -17.8,-2.4 diameter 0.5 hole 0.3
via -18.4,-2 diameter 0.5 hole 0.3
via -18.4,-2.8 diameter 0.5 hole 0.3
via -17.8,-3.2 diameter 0.5 hole 0.3
via -17.8,-4 diameter 0.5 hole 0.3
via -18.4,-3.6 diameter 0.5 hole 0.3
via -17.8,-4.8 diameter 0.5 hole 0.3
via -18.4,-4.4 diameter 0.5 hole 0.3
via -18.4,-5.2 diameter 0.5 hole 0.3
via -17.8,-5.6 diameter 0.5 hole 0.3
via -17.8,-6.4 diameter 0.5 hole 0.3
via -18.4,-6 diameter 0.5 hole 0.3
via -17.8,-7.2 diameter 0.5 hole 0.3
via -18.4,-6.8 diameter 0.5 hole 0.3
via -18.4,-7.6 diameter 0.5 hole 0.3
via -17.8,-8 diameter 0.5 hole 0.3
via -17.8,-8.8 diameter 0.5 hole 0.3
via -18.4,-8.4 diameter 0.5 hole 0.3
via -17.8,-9.6 diameter 0.5 hole 0.3
via -18.4,-9.2 diameter 0.5 hole 0.3
via -18.4,-10 diameter 0.5 hole 0.3
via -17.8,-10.4 diameter 0.5 hole 0.3
via -17.8,-11.2 diameter 0.5 hole 0.3
via -18.4,-10.8 diameter 0.5 hole 0.3
via -17.8,-12 diameter 0.5 hole 0.3
via -18.4,-11.6 diameter 0.5 hole 0.3
via -18.4,-12.4 diameter 0.5 hole 0.3
via -17.8,-12.8 diameter 0.5 hole 0.3
via -17.8,-13.6 diameter 0.5 hole 0.3
via -18.4,-13.2 diameter 0.5 hole 0.3
via -17.8,-14.4 diameter 0.5 hole 0.3
via -18.4,-14 diameter 0.5 hole 0.3
via -18.4,-14.8 diameter 0.5 hole 0.3
via 15.4,-14.4 diameter 0.5 hole 0.3
via 16,-14.8 diameter 0.5 hole 0.3
via 16,-14 diameter 0.5 hole 0.3
via 15.4,-13.6 diameter 0.5 hole 0.3
via 15.4,-12.8 diameter 0.5 hole 0.3
via 16,-13.2 diameter 0.5 hole 0.3
via 15.4,-12 diameter 0.5 hole 0.3
via 16,-12.4 diameter 0.5 hole 0.3
via 16,-11.6 diameter 0.5 hole 0.3
via 15.4,-11.2 diameter 0.5 hole 0.3
via 15.4,-10.4 diameter 0.5 hole 0.3
via 16,-10.8 diameter 0.5 hole 0.3
via 15.4,-9.6 diameter 0.5 hole 0.3
via 16,-10 diameter 0.5 hole 0.3
via 16,-9.2 diameter 0.5 hole 0.3
via 15.4,-8.8 diameter 0.5 hole 0.3
via 15.4,-8 diameter 0.5 hole 0.3
via 16,-8.4 diameter 0.5 hole 0.3
via 15.4,-7.2 diameter 0.5 hole 0.3
via 16,-7.6 diameter 0.5 hole 0.3
via 15.4,7.2 diameter 0.5 hole 0.3
via 16,7.6 diameter 0.5 hole 0.3
via 15.4,8 diameter 0.5 hole 0.3
via 15.4,8.8 diameter 0.5 hole 0.3
via 16,8.4 diameter 0.5 hole 0.3
via 15.4,9.6 diameter 0.5 hole 0.3
via 16,9.2 diameter 0.5 hole 0.3
via 16,10 diameter 0.5 hole 0.3
via 15.4,10.4 diameter 0.5 hole 0.3
via 15.4,11.2 diameter 0.5 hole 0.3
via 16,10.8 diameter 0.5 hole 0.3
via 15.4,12 diameter 0.5 hole 0.3
via 16,11.6 diameter 0.5 hole 0.3
via 16,12.4 diameter 0.5 hole 0.3
via 15.4,12.8 diameter 0.5 hole 0.3
via 15.4,13.6 diameter 0.5 hole 0.3
via 16,13.2 diameter 0.5 hole 0.3
via 15.4,14.4 diameter 0.5 hole 0.3
via 16,14 diameter 0.5 hole 0.3
via 16,14.8 diameter 0.5 hole 0.3
via 16.6,-14.4 diameter 0.5 hole 0.3
via 17.2,-14.8 diameter 0.5 hole 0.3
via 17.2,-14 diameter 0.5 hole 0.3
via 16.6,-13.6 diameter 0.5 hole 0.3
via 16.6,-12.8 diameter 0.5 hole 0.3
via 17.2,-13.2 diameter 0.5 hole 0.3
via 16.6,-12 diameter 0.5 hole 0.3
via 17.2,-12.4 diameter 0.5 hole 0.3
via 17.2,-11.6 diameter 0.5 hole 0.3
via 16.6,-11.2 diameter 0.5 hole 0.3
via 16.6,-10.4 diameter 0.5 hole 0.3
via 17.2,-10.8 diameter 0.5 hole 0.3
via 16.6,-9.6 diameter 0.5 hole 0.3
via 17.2,-10 diameter 0.5 hole 0.3
via 17.2,-9.2 diameter 0.5 hole 0.3
via 16.6,-8.8 diameter 0.5 hole 0.3
via 16.6,-8 diameter 0.5 hole 0.3
via 17.2,-8.4 diameter 0.5 hole 0.3
via 16.6,-7.2 diameter 0.5 hole 0.3
via 17.2,-7.6 diameter 0.5 hole 0.3
via 16.6,7.2 diameter 0.5 hole 0.3
via 17.2,7.6 diameter 0.5 hole 0.3
via 16.6,8 diameter 0.5 hole 0.3
via 16.6,8.8 diameter 0.5 hole 0.3
via 17.2,8.4 diameter 0.5 hole 0.3
via 16.6,9.6 diameter 0.5 hole 0.3
via 17.2,9.2 diameter 0.5 hole 0.3
via 17.2,10 diameter 0.5 hole 0.3
via 16.6,10.4 diameter 0.5 hole 0.3
via 16.6,11.2 diameter 0.5 hole 0.3
via 17.2,10.8 diameter 0.5 hole 0.3
via 16.6,12 diameter 0.5 hole 0.3
via 17.2,11.6 diameter 0.5 hole 0.3
via 17.2,12.4 diameter 0.5 hole 0.3
via 16.6,12.8 diameter 0.5 hole 0.3
via 16.6,13.6 diameter 0.5 hole 0.3
via 17.2,13.2 diameter 0.5 hole 0.3
via 16.6,14.4 diameter 0.5 hole 0.3
via 17.2,14 diameter 0.5 hole 0.3
via 17.2,14.8 diameter 0.5 hole 0.3
via 17.8,-14.4 diameter 0.5 hole 0.3
via 18.4,-14.8 diameter 0.5 hole 0.3
via 18.4,-14 diameter 0.5 hole 0.3
via 17.8,-13.6 diameter 0.5 hole 0.3
via 17.8,-12.8 diameter 0.5 hole 0.3
via 18.4,-13.2 diameter 0.5 hole 0.3
via 17.8,-12 diameter 0.5 hole 0.3
via 18.4,-12.4 diameter 0.5 hole 0.3
via 18.4,-11.6 diameter 0.5 hole 0.3
via 17.8,-11.2 diameter 0.5 hole 0.3
via 17.8,-10.4 diameter 0.5 hole 0.3
via 18.4,-10.8 diameter 0.5 hole 0.3
via 17.8,-9.6 diameter 0.5 hole 0.3
via 18.4,-10 diameter 0.5 hole 0.3
via 18.4,-9.2 diameter 0.5 hole 0.3
via 17.8,-8.8 diameter 0.5 hole 0.3
via 17.8,-8 diameter 0.5 hole 0.3
via 18.4,-8.4 diameter 0.5 hole 0.3
via 17.8,-7.2 diameter 0.5 hole 0.3
via 18.4,-7.6 diameter 0.5 hole 0.3
via 17.8,7.2 diameter 0.5 hole 0.3
via 18.4,7.6 diameter 0.5 hole 0.3
via 17.8,8 diameter 0.5 hole 0.3
via 17.8,8.8 diameter 0.5 hole 0.3
via 18.4,8.4 diameter 0.5 hole 0.3
via 17.8,9.6 diameter 0.5 hole 0.3
via 18.4,9.2 diameter 0.5 hole 0.3
via 18.4,10 diameter 0.5 hole 0.3
via 17.8,10.4 diameter 0.5 hole 0.3
via 17.8,11.2 diameter 0.5 hole 0.3
via 18.4,10.8 diameter 0.5 hole 0.3
via 17.8,12 diameter 0.5 hole 0.3
via 18.4,11.6 diameter 0.5 hole 0.3
via 18.4,12.4 diameter 0.5 hole 0.3
via 17.8,12.8 diameter 0.5 hole 0.3
via 17.8,13.6 diameter 0.5 hole 0.3
via 18.4,13.2 diameter 0.5 hole 0.3
via 17.8,14.4 diameter 0.5 hole 0.3
via 18.4,14 diameter 0.5 hole 0.3
via 18.4,14.8 diameter 0.5 hole 0.3
Top Layer:
  region: -19,19 -19,-19 19,-19 19,-6 11,-6 11,6 19,6 19,19 -18.4,19 -18.8,19
Top Courtyard:
  lines w0.254: -19,-19 -19,19 19,19 19,6 11,6 11,-6 19,-6 19,-19 -19,-19
Bottom Courtyard:
  lines w0.254: -20.6,-20.346 ccw(c-20.346,-20.346) -20.346,-20.6 20.346,-20.6 ccw(c20.346,-20.346) 20.6,-20.346 20.6,20.346 ccw(c20.346,20.346) 20.346,20.6 -20.346,20.6 ccw(c-20.346,20.346) -20.6,20.346 -20.6,-20.346
3D body: height 4, standoff 0, extent -20,-20 20,20
3D body: height 0.25, standoff 0, extent -20,20 20,20